# Altium schematic symbol library RC_Car_ATMEGA8.SchLib: 22 symbols
Pins are listed as number, name and electrical type; pins without a type are passive.

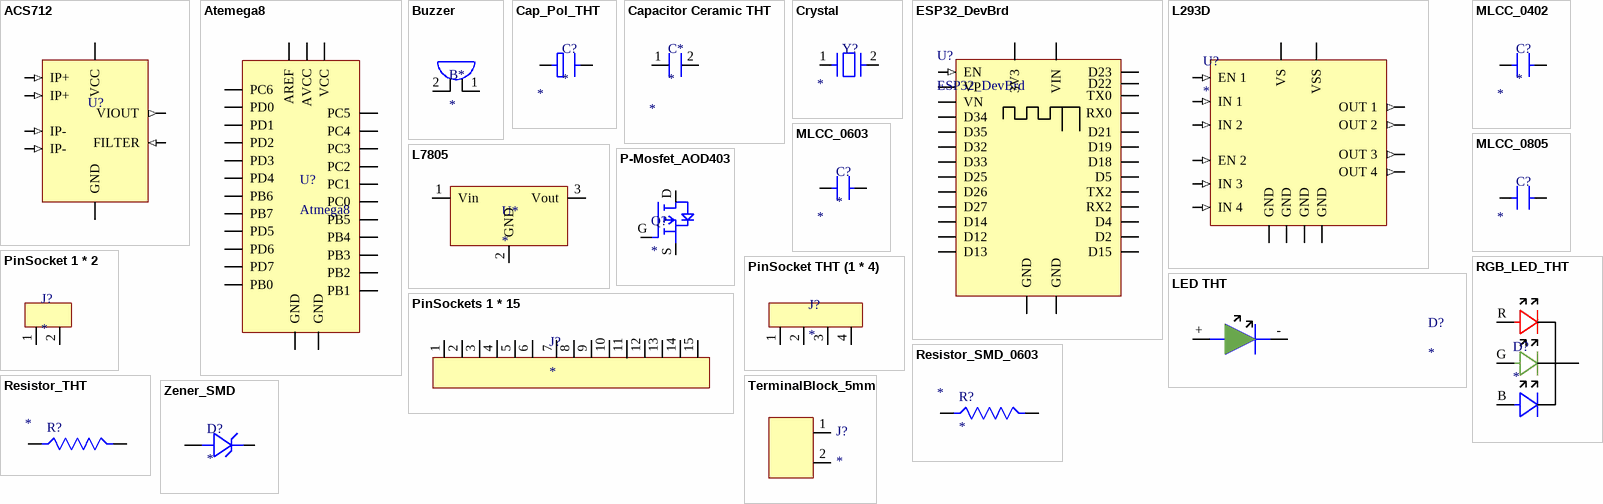
[diagram p0: symbols ACS712 to Zener_SMD]

## ACS712
designator U?, comment 5A  (value not drawn)
Current sensor 5A; Manufacturer: *; Manufacturer Part#: *; Supllier: *; Supllier Part#: *
footprint ACS712_SOP8
pins: 1 IP+ (in), 2 IP+ (in), 3 IP- (in), 4 IP- (in), 5 GND (power), 6 FILTER (in), 7 VIOUT (out), 8 VCC (power)

## Atemega8
designator U?, comment Atmega8
MCU; Manufacturer: *; Manufacturer Part#: *; Supplier: *; Supplier Part#: *
footprint Atmega8_DIP28
pins: 1 PC6 (io) "RESET", 2 PD0 (io) "RXD", 3 PD1 (io) "TXD", 4 PD2 (io), 5 PD3 (io), 6 PD4 (io), 7 VCC (power), 8 GND (power), 9 PB6 (io) "XTAL1", 10 PB7 (io) "XTAL2", 11 PD5 (io), 12 PD6 (io) "AIN0", 13 PD7 (io) "AIN1", 14 PB0 (io), 15 PB1 (io), 16 PB2 (io), 17 PB3 (io) "MOSI", 18 PB4 (io) "MISO", 19 PB5 (io) "SCK", 20 AVCC (power), 21 AREF (power), 22 GND (power), 23 PC0 (io) "ADC0", 24 PC1 (io) "ADC1", 25 PC2 (io) "ADC2", 26 PC3 (io) "ADC3", 27 PC4 (io) "SDA", 28 PC5 (io) "SCL"

## Buzzer
designator B*
Manufacturer: *; Manufacturer Part#: *; Supplier: *; Supplier Part#: *
footprint Buzzer 12mm
pins: 1, 2

## Cap_Pol_THT
designator C?
MAnufacturer: *; Manufacturer Part #: *; Supplier: *; Supplier Part #: *; Manufacturer: *; Manufacturer Part#: *; Supplier Part#: *; Value: *
footprint Cap_Pol_6*2.5
pins: 1 +, 2 -

## Capacitor Ceramic THT
designator C*
Manufacturer Part #: *; Supplier: *; Supplier Part #: *; Manufacturer: *; Value: *
footprint Capacitor Ceramic
pins: 1, 2

## Crystal
designator Y?
Manufacturer: *; Manufacturer Part #: *; Supplier: *; Supplier Part #: *; Value: *
footprint Crystal_THT
pins: 1, 2

## ESP32_DevBrd
designator U?
Manufacturer: *; Manufacturer Part #: *; Supplier: *; Supplier Part #: *
footprint ESP32_DevBrd_DIP30
pins: 1 EN (in), 2 VP (io), 3 VN (io), 4 D34 (io), 5 D35 (io), 6 D32 (io), 7 D33 (io), 8 D25 (io), 9 D26 (io), 10 D27 (io), 11 D14 (io), 12 D12 (io), 13 D13 (io), 14 GND (power), 15 VIN (power), 16 3V3 (power), 17 GND (power), 18 D15 (io), 19 D2 (io), 20 D4 (io), 21 RX2 (io), 22 TX2 (io), 23 D5 (io), 24 D18 (io), 25 D19 (io), 26 D21 (io), 27 RX0 (io), 28 TX0 (io), 29 D22 (io), 30 D23 (io)

## L293D
designator U?
Motor Driver; Manufacturer: *; Manufacturer Part#: *; Supplier: *; Supplier Part#: *
footprint L293D_DIP16 - duplicate
pins: 1 EN 1 (in), 2 IN 1 (in), 3 OUT 1 (out), 4 GND (power), 5 GND (power), 6 OUT 2 (out), 7 IN 2 (in), 8 VS (power), 9 EN 2 (in), 10 IN 3 (in), 11 OUT 3 (out), 12 GND (power), 13 GND (power), 14 OUT 4 (out), 15 IN 4 (in), 16 VSS (power)

## L7805
designator U*
5V voltage regulator; Manufacturer: *; Manufacturer Part#: *; Supplier: *; Supplier Part#: *
footprint L7805 (Voltage regulator)
pins: 1 Vin, 2 GND, 3 Vout

## LED THT
designator D?
Through hole LED; Manufacturer: *; Manufacturer part NO.: *; Supplier: *; Supplier part No.: *
footprint LED THT 5mm
pins: + Anode, - Cathode

## MLCC_0402
designator C?
Manufacturer: *; Manufacturer Part #: *; Supplier: *; Supplier Part #: *; Manufacturer Part#: *; Supplier Part#: *; Value: *
footprint Capacitor Ceramic SMD 0402
footprint MLCC_0402
pins: 1, 2

## MLCC_0603
designator C?
Manufacturer: *; Manufacturer part #: *; Supplier: *; Supplier Part #: *; Value: *
footprint MLCC_0603
pins: 1, 2

## MLCC_0805
designator C?
Manufacturer: *; Manufacturer Part #: *; Supplier: *; Supplier Part #: *; Value: *
footprint MLCC_0805
pins: 1, 2

## P-Mosfet_AOD403
designator Q?
AOD403 SMD MOSFET Transistor P-Channel 30V 15A 3.5V @ 250uA 6mΩ @ 20A,20V 2.5W TO-252-2(DPAK); Manufacturer: *; Manufacturer Part#: *; Supplier: *; Supplier Part#: *
footprint TO_252
pins: D, G, S

## PinSocket 1 * 2
designator J?
Manufacturer: *; Manufacturer Part #: *; Supplier: *; Supplier Part #: *; Parameter 1: *
footprint PinSocket 1 * 2 2.54
pins: 1, 2

## PinSocket THT (1 * 4)
designator J?
Manufacturer: *; Manufacturer Part#: *; Supplier: *; Supplier Part#: *
footprint PinHeader THT 3
footprint PinHeader THT 2
footprint PinSocket (1 * 4) 2.54
pins: 1, 2, 3, 4

## PinSockets 1 * 15
designator J?
Manufacturer: *; Manufacturer Part #: *; Supplier: *; Supllier Part #: *
footprint PinHeader 1 * 15 2.54mm
pins: 1, 2, 3, 4, 5, 6, 7, 8, 9, 10, 11, 12, 13, 14, 15

## Resistor_SMD_0603
designator R?
Manufacturer: *; Manufacturer Part No.: *; Supplier: *; Supllier Part No.: *; Supplier part #: *; Manufacturerr: *; Manufacturer part #: *; Manufacturer Part#: *; Supplier Part#: *; Value: *
footprint Resistor_SMD_0603
pins: 1, 2

## Resistor_THT
designator R?
Manufacturer: *; Manufacturer Part No.: *; Supplier: *; Supllier Part No.: *; Supplier part #: *; Manufacturerr: *; Manufacturer part #: *; Manufacturer Part#: *; Supplier Part#: *; Value: *
footprint Resistor THT
pins: 1, 2

## RGB_LED_THT
designator D?
Manufacturer: *; Manufacturer Part#: *; Supplier: *; Supplier Part#: *
footprint RGB LED THT
pins: - Cathode, B, G, R

## TerminalBlock_5mm
designator J?
Screw terminal connector 2 * Pins; Manufacturer: *; Manufacturer Part No.: *; Supplier: *; Supplier part No.: *
footprint TerminalBlock_5mm
pins: 1, 2

## Zener_SMD
designator D?
Maniufacturer: *; Manufacturer Part#: *; Supplier: *; Supplier Part#: *
footprint Zener_
pins: + Anode, - Cathode